# Altium schematic symbol library DCP01_BP.Schlib: 1 symbol
Pins are listed as number, name and electrical type; pins without a type are passive.

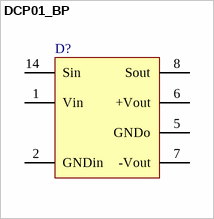
[diagram p0: symbol DCP01_BP]

## DCP01_BP
designator D?
DC-DC converter; Package Information: Latest Revision: ver11.0, Feb-2003; Configures: APEX II, APEX 20K, Mercury, ACEX 1K & FLEX Devices; Code - JEDEC: MS-026-ABA; Published: 17-Sep-2003; Datasheet: Latest Revision: ver1.1, Oct-2003; Package Reference: TQFP32; Publisher: Altium Limited
footprint DCP01_P
pins: 1 Vin (power), 2 GNDin (power), 5 GNDo (power), 6 +Vout (power), 7 -Vout (power), 8 Sout (hiz), 14 Sin (hiz)